# Altium footprint library fuse_smd.PcbLib: 1 footprints
Each footprint in its own frame and in the unit in brackets; x right, y up, seen from the top. Pads: shape width x height; smd on the part's side, far side on the other; paste and mask are expansions set on the pad; w line width, h text height; cw(c..) or ccw(c..) is an arc to the next point about the centre after c.
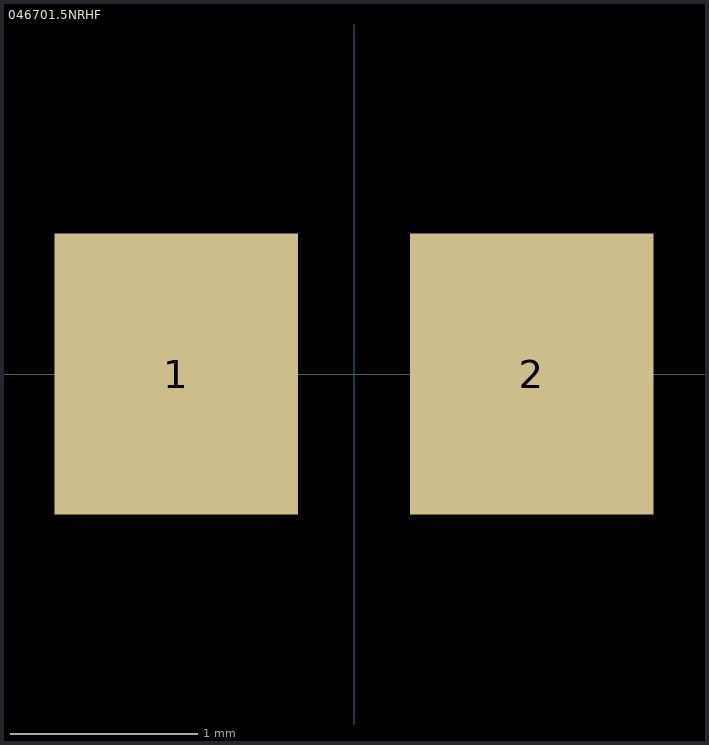
[diagram p0: the footprint, top view; thin cyan lines are the x and y axes]

## 046701.5NRHF [mm] "Surface Mount Fuses 32V 1.5 A V/FA HALIDE FREE"
height 0.3
pads (2):
  rect 1.3x1.5 smd: 1(-0.95,0) 2(0.95,0)
3D body "RESC2012X06N.step": height 0.6, standoff 0, extent -1,-0.6 1,0.6